# Altium integrated library Analog Devices Audio and Video Video Amps, Buffers and Filters.IntLib: 89 symbols (part 3 of 5)
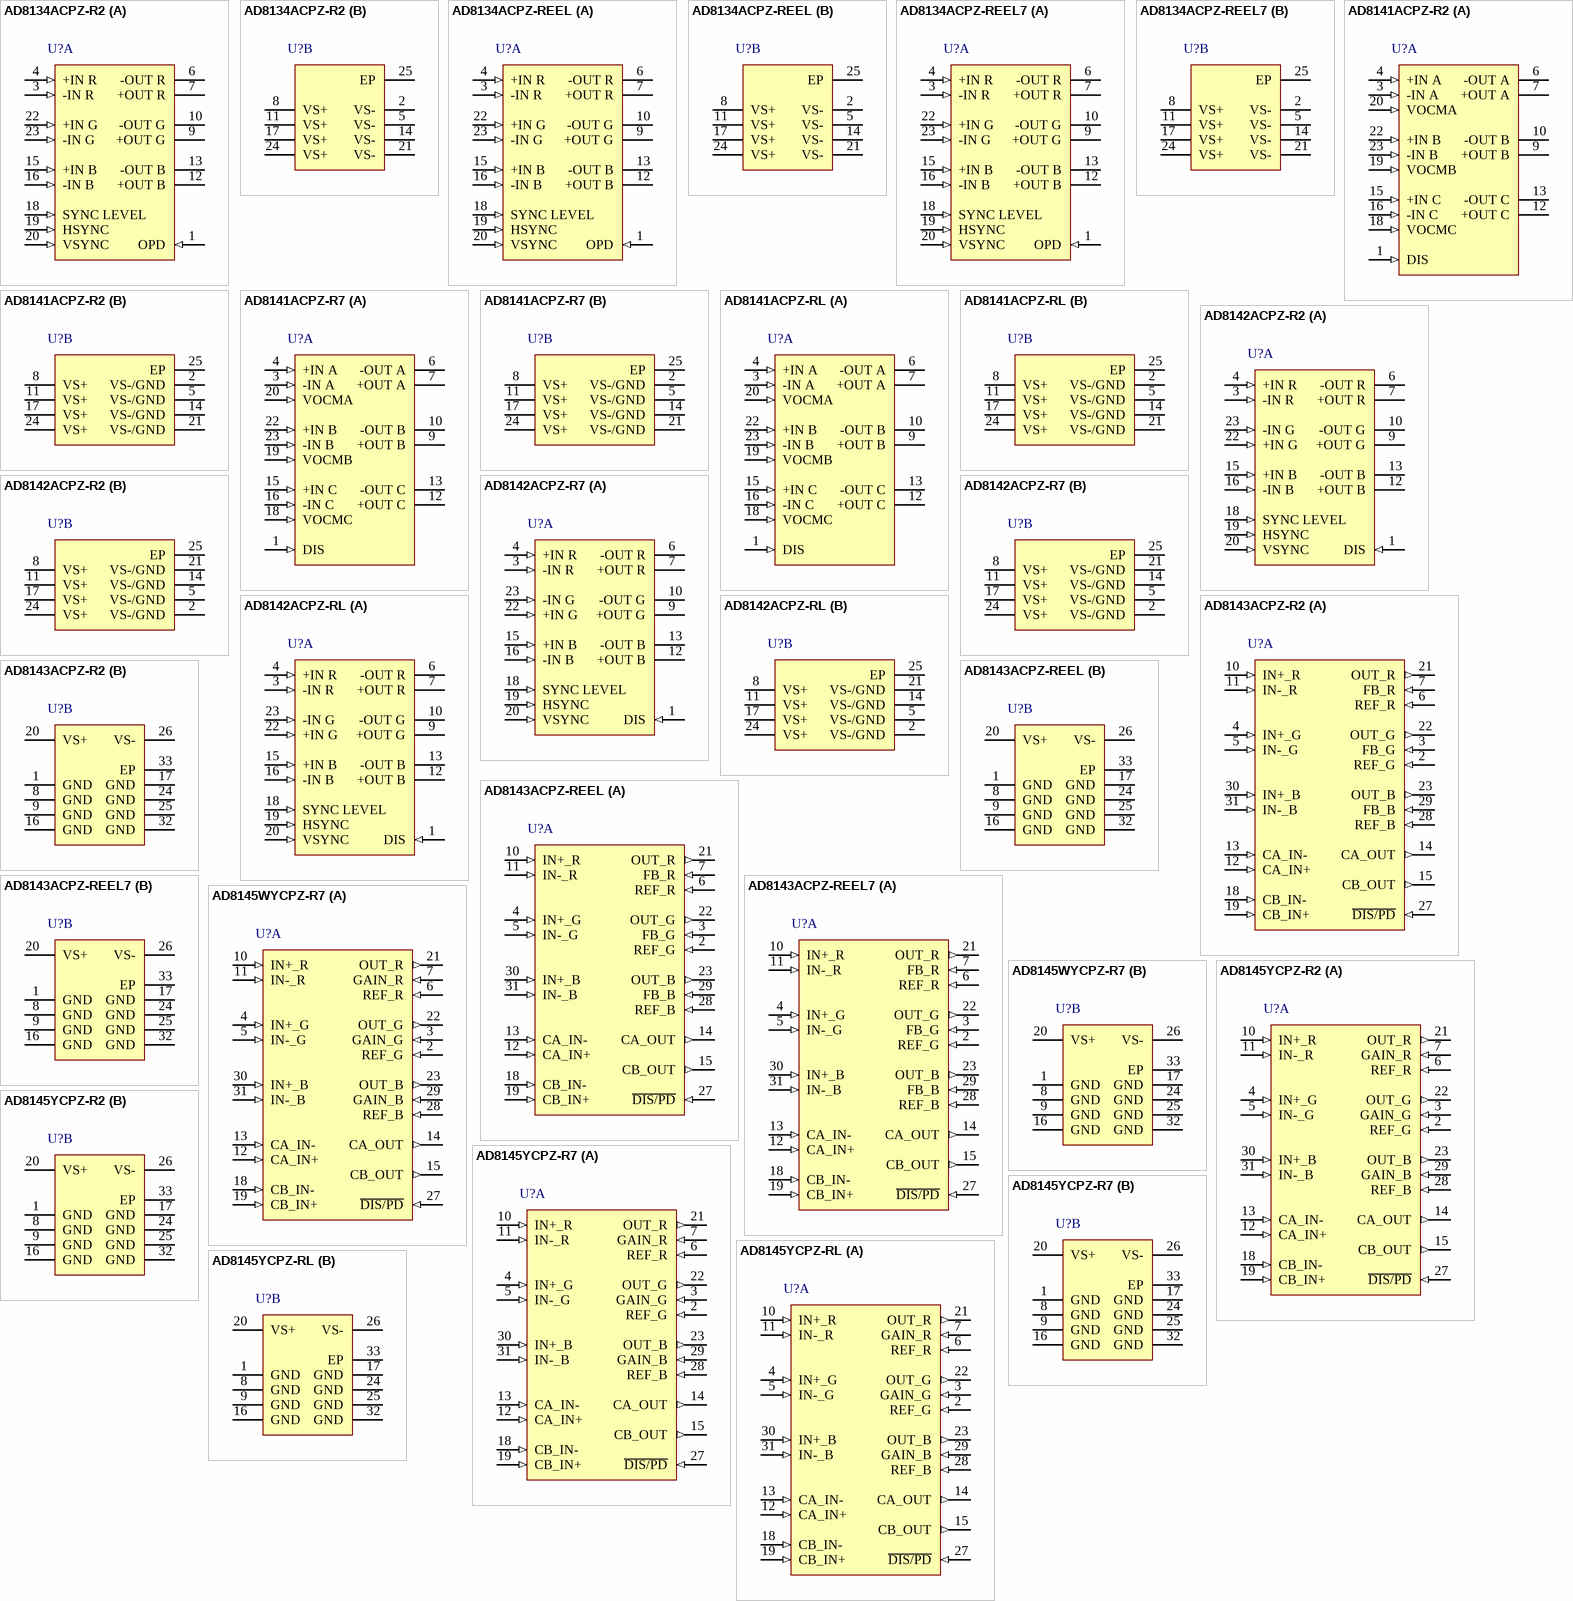
[diagram p6: symbols AD8134ACPZ-R2 to AD8145YCPZ-RL]

## AD8143ACPZ-R2
designator U?
High Speed, Triple Differential Receiver with Comparator, 5 to 12 V Supply, 260 MHz Bandwidth, Industrial, 32-pin QFN (CP-32-2), Reel; Manufacturer: Analog Devices; PartNumber: AD8143ACPZ-R2; -3dB Bandwidth: 160MHz, 130MHz, 125MHz; 0.1 dB Flatness (MHz): 45; Max Pos Supply: 24V, 24V, 24V; Min Pos Supply: 4.5V,4.5V, 4.5V; Minimum Gain (Acl): 1; Slew Rate (V/us): 1000; DatasheetVersion: Rev. 0; PackageVersion: Jan-05; PackageReference: CP-32-2; PackageDescription: 32-Pin Lead Frame Chip Scale Package, Body 5 x 5 mm, Pitch 0.5 mm; Supplier 1: Mouser; Supplier Part Number 1: N/A; Packing: Reel; Mounting Technology: Surface Mount; Code_JEDEC: MO-220-VHHD-2; ComponentLink1Description: Manufacturer URL; ComponentLink1URL: http://www.analog.com/en/index.html; ComponentLink2Description: Datasheet; ComponentLink2URL: http://www.analog.com/static/imported-files/data_sheets/AD8143.pdf; ComponentLink3Description: Package Specification; ComponentLink3URL: http://www.analog.com/static/imported-files/packages/414143737956480539664569CP_32_2.pdf; ComponentLink4Description: URL Link1; ComponentLink4URL: Product URL:http://www.analog.com/en/specialty-amplifiers/video-ampsbuffersfilters/ad8143/products/product.html
footprint ADI-CP-32-2_N (QFN, 32-Leads, Body 5x5mm, Pitch 0.5mm, Thermal Pad 3.1x3.1mm, IPC Medium Density)
footprint ADI-CP-32-2_L (QFN, 32-Leads, Body 5x5mm, Pitch 0.5mm, Thermal Pad 3.1x3.1mm, IPC High Density)
footprint ADI-CP-32-2_M (QFN, 32-Leads, Body 5x5mm, Pitch 0.5mm, Thermal Pad 3.1x3.1mm, IPC Low Density)
part A pins: 2 REF_G (in) "Reference Input, Green Channel", 3 FB_G (in) "Feedback Input, Green Channel", 4 IN+_G (in) "Noninverting Input, Green Channel", 5 IN-_G (in) "Inverting Input, Green Channel", 6 REF_R (in) "Reference Input, Red Channel", 7 FB_R (in) "Feedback Input, Red Channel", 10 IN+_R (in) "Noninverting Input, Red Channel", 11 IN-_R (in) "Inverting Input, Red Channel", 12 CA_IN+ (in) "Positive Input, Comparator A", 13 CA_IN- (in) "Negative Input, Comparator A", 14 CA_OUT (out) "Output, Comparator A", 15 CB_OUT (out) "Output, Comparator B", 18 CB_IN- (in) "Negative Input, Comparator B", 19 CB_IN+ (in) "Positive Input, Comparator B", 21 OUT_R (out) "Output, Red Channel", 22 OUT_G (out) "Output, Green Channel", 23 OUT_B (out) "Output, Blue Channel", 27 ~{DIS/PD} (in) "Disable/Power Down", 28 REF_B (in) "Reference Input, Blue Channel", 29 FB_B (in) "Feedback Input, Blue Channel", 30 IN+_B (in) "Noninverting Input, Blue Channel", 31 IN-_B (in) "Inverting Input, Blue Channel"
part B pins: 1 GND (power) "Signal Ground and Thermal Plane Connection (See the Applications Section)", 8 GND (power) "Signal Ground and Thermal Plane Connection (See the Applications Section)", 9 GND (power) "Signal Ground and Thermal Plane Connection (See the Applications Section)", 16 GND (power) "Signal Ground and Thermal Plane Connection (See the Applications Section)", 17 GND (power) "Signal Ground and Thermal Plane Connection (See the Applications Section)", 20 VS+ (power) "Positive Power Supply", 24 GND (power) "Signal Ground and Thermal Plane Connection (See the Applications Section)", 25 GND (power) "Signal Ground and Thermal Plane Connection (See the Applications Section)", 26 VS- (power) "Negative Power Supply", 32 GND (power) "Signal Ground and Thermal Plane Connection (See the Applications Section)", 33 EP (power) "Signal Ground and Thermal Plane Connection (See the Applications Section)"

## AD8143ACPZ-REEL
designator U?
High Speed, Triple Differential Receiver with Comparator, 5 to 12 V Supply, 260 MHz Bandwidth, Industrial, 32-pin QFN (CP-32-2), Reel; Manufacturer: Analog Devices; PartNumber: AD8143ACPZ-REEL; -3dB Bandwidth: 160MHz, 130MHz, 125MHz; 0.1 dB Flatness (MHz): 45; Max Pos Supply: 24V, 24V, 24V; Min Pos Supply: 4.5V,4.5V, 4.5V; Minimum Gain (Acl): 1; Slew Rate (V/us): 1000; DatasheetVersion: Rev. 0; PackageVersion: Jan-05; PackageReference: CP-32-2; PackageDescription: 32-Pin Lead Frame Chip Scale Package, Body 5 x 5 mm, Pitch 0.5 mm; Supplier 1: Digi-Key; Supplier Part Number 1: AD8143ACPZ-REEL-ND; Supplier 2: Mouser; Supplier Part Number 2: 584-AD8143ACPZ-R; Packing: Reel; Mounting Technology: Surface Mount; Code_JEDEC: MO-220-VHHD-2; ComponentLink1Description: Manufacturer URL; ComponentLink1URL: http://www.analog.com/en/index.html; ComponentLink2Description: Datasheet; ComponentLink2URL: http://www.analog.com/static/imported-files/data_sheets/AD8143.pdf; ComponentLink3Description: Package Specification; ComponentLink3URL: http://www.analog.com/static/imported-files/packages/414143737956480539664569CP_32_2.pdf; ComponentLink4Description: URL Link1; ComponentLink4URL: Product URL:http://www.analog.com/en/specialty-amplifiers/video-ampsbuffersfilters/ad8143/products/product.html
footprint ADI-CP-32-2_N (QFN, 32-Leads, Body 5x5mm, Pitch 0.5mm, Thermal Pad 3.1x3.1mm, IPC Medium Density)
footprint ADI-CP-32-2_L (QFN, 32-Leads, Body 5x5mm, Pitch 0.5mm, Thermal Pad 3.1x3.1mm, IPC High Density)
footprint ADI-CP-32-2_M (QFN, 32-Leads, Body 5x5mm, Pitch 0.5mm, Thermal Pad 3.1x3.1mm, IPC Low Density)
part A pins: 2 REF_G (in) "Reference Input, Green Channel", 3 FB_G (in) "Feedback Input, Green Channel", 4 IN+_G (in) "Noninverting Input, Green Channel", 5 IN-_G (in) "Inverting Input, Green Channel", 6 REF_R (in) "Reference Input, Red Channel", 7 FB_R (in) "Feedback Input, Red Channel", 10 IN+_R (in) "Noninverting Input, Red Channel", 11 IN-_R (in) "Inverting Input, Red Channel", 12 CA_IN+ (in) "Positive Input, Comparator A", 13 CA_IN- (in) "Negative Input, Comparator A", 14 CA_OUT (out) "Output, Comparator A", 15 CB_OUT (out) "Output, Comparator B", 18 CB_IN- (in) "Negative Input, Comparator B", 19 CB_IN+ (in) "Positive Input, Comparator B", 21 OUT_R (out) "Output, Red Channel", 22 OUT_G (out) "Output, Green Channel", 23 OUT_B (out) "Output, Blue Channel", 27 ~{DIS/PD} (in) "Disable/Power Down", 28 REF_B (in) "Reference Input, Blue Channel", 29 FB_B (in) "Feedback Input, Blue Channel", 30 IN+_B (in) "Noninverting Input, Blue Channel", 31 IN-_B (in) "Inverting Input, Blue Channel"
part B pins: 1 GND (power) "Signal Ground and Thermal Plane Connection (See the Applications Section)", 8 GND (power) "Signal Ground and Thermal Plane Connection (See the Applications Section)", 9 GND (power) "Signal Ground and Thermal Plane Connection (See the Applications Section)", 16 GND (power) "Signal Ground and Thermal Plane Connection (See the Applications Section)", 17 GND (power) "Signal Ground and Thermal Plane Connection (See the Applications Section)", 20 VS+ (power) "Positive Power Supply", 24 GND (power) "Signal Ground and Thermal Plane Connection (See the Applications Section)", 25 GND (power) "Signal Ground and Thermal Plane Connection (See the Applications Section)", 26 VS- (power) "Negative Power Supply", 32 GND (power) "Signal Ground and Thermal Plane Connection (See the Applications Section)", 33 EP (power) "Signal Ground and Thermal Plane Connection (See the Applications Section)"

## AD8143ACPZ-REEL7
designator U?
High Speed, Triple Differential Receiver with Comparator, 5 to 12 V Supply, 260 MHz Bandwidth, Industrial, 32-pin QFN (CP-32-2), Reel; Manufacturer: Analog Devices; PartNumber: AD8143ACPZ-REEL7; -3dB Bandwidth: 160MHz, 130MHz, 125MHz; 0.1 dB Flatness (MHz): 45; Max Pos Supply: 24V, 24V, 24V; Min Pos Supply: 4.5V,4.5V, 4.5V; Minimum Gain (Acl): 1; Slew Rate (V/us): 1000; DatasheetVersion: Rev. 0; PackageVersion: Jan-05; PackageReference: CP-32-2; PackageDescription: 32-Pin Lead Frame Chip Scale Package, Body 5 x 5 mm, Pitch 0.5 mm; Supplier 1: Digi-Key; Supplier Part Number 1: AD8143ACPZ-REEL7TR-ND; Supplier 2: Digi-Key; Supplier Part Number 2: AD8143ACPZ-REEL7CT-ND; Supplier 3: Digi-Key; Supplier Part Number 3: AD8143ACPZ-REEL7DKR-ND; Supplier 4: Mouser; Supplier Part Number 4: 584-AD8143ACPZ-R7; Packing: Reel; Mounting Technology: Surface Mount; Code_JEDEC: MO-220-VHHD-2; ComponentLink1Description: Manufacturer URL; ComponentLink1URL: http://www.analog.com/en/index.html; ComponentLink2Description: Datasheet; ComponentLink2URL: http://www.analog.com/static/imported-files/data_sheets/AD8143.pdf; ComponentLink3Description: Package Specification; ComponentLink3URL: http://www.analog.com/static/imported-files/packages/414143737956480539664569CP_32_2.pdf; ComponentLink4Description: URL Link1; ComponentLink4URL: Product URL:http://www.analog.com/en/specialty-amplifiers/video-ampsbuffersfilters/ad8143/products/product.html
footprint ADI-CP-32-2_N (QFN, 32-Leads, Body 5x5mm, Pitch 0.5mm, Thermal Pad 3.1x3.1mm, IPC Medium Density)
footprint ADI-CP-32-2_L (QFN, 32-Leads, Body 5x5mm, Pitch 0.5mm, Thermal Pad 3.1x3.1mm, IPC High Density)
footprint ADI-CP-32-2_M (QFN, 32-Leads, Body 5x5mm, Pitch 0.5mm, Thermal Pad 3.1x3.1mm, IPC Low Density)
part A pins: 2 REF_G (in) "Reference Input, Green Channel", 3 FB_G (in) "Feedback Input, Green Channel", 4 IN+_G (in) "Noninverting Input, Green Channel", 5 IN-_G (in) "Inverting Input, Green Channel", 6 REF_R (in) "Reference Input, Red Channel", 7 FB_R (in) "Feedback Input, Red Channel", 10 IN+_R (in) "Noninverting Input, Red Channel", 11 IN-_R (in) "Inverting Input, Red Channel", 12 CA_IN+ (in) "Positive Input, Comparator A", 13 CA_IN- (in) "Negative Input, Comparator A", 14 CA_OUT (out) "Output, Comparator A", 15 CB_OUT (out) "Output, Comparator B", 18 CB_IN- (in) "Negative Input, Comparator B", 19 CB_IN+ (in) "Positive Input, Comparator B", 21 OUT_R (out) "Output, Red Channel", 22 OUT_G (out) "Output, Green Channel", 23 OUT_B (out) "Output, Blue Channel", 27 ~{DIS/PD} (in) "Disable/Power Down", 28 REF_B (in) "Reference Input, Blue Channel", 29 FB_B (in) "Feedback Input, Blue Channel", 30 IN+_B (in) "Noninverting Input, Blue Channel", 31 IN-_B (in) "Inverting Input, Blue Channel"
part B pins: 1 GND (power) "Signal Ground and Thermal Plane Connection (See the Applications Section)", 8 GND (power) "Signal Ground and Thermal Plane Connection (See the Applications Section)", 9 GND (power) "Signal Ground and Thermal Plane Connection (See the Applications Section)", 16 GND (power) "Signal Ground and Thermal Plane Connection (See the Applications Section)", 17 GND (power) "Signal Ground and Thermal Plane Connection (See the Applications Section)", 20 VS+ (power) "Positive Power Supply", 24 GND (power) "Signal Ground and Thermal Plane Connection (See the Applications Section)", 25 GND (power) "Signal Ground and Thermal Plane Connection (See the Applications Section)", 26 VS- (power) "Negative Power Supply", 32 GND (power) "Signal Ground and Thermal Plane Connection (See the Applications Section)", 33 EP (power) "Signal Ground and Thermal Plane Connection (See the Applications Section)"

## AD8145WYCPZ-R7
designator U?
High Speed, Triple Differential Receiver with Comparator, 4.5 to 11 V Supply, 500 MHz Bandwidth, Industrial, 32-pin QFN (CP-32-3), Reel; Manufacturer: Analog Devices; PartNumber: AD8145WYCPZ-R7; -3dB Bandwidth: 500MHz, 425MHz; 0.1 dB Flatness (MHz): 75, 53; Max Pos Supply: 11V, 11V; Min Pos Supply: 4.5V, 4.5V; Minimum Gain (Acl): 1; Slew Rate (V/us): 2100, 2000; DatasheetVersion: Rev. A; PackageVersion: Jan-05; PackageReference: CP-32-3; PackageDescription: 32-Pin Lead Frame Chip Scale Package, Body 5 x 5 mm, Pitch 0.5 mm; Supplier 1: Digi-Key; Supplier Part Number 1: AD8145WYCPZ-R7TR-ND; Supplier 2: Digi-Key; Supplier Part Number 2: AD8145WYCPZ-R7CT-ND; Supplier 3: Digi-Key; Supplier Part Number 3: AD8145WYCPZ-R7DKR-ND; Supplier 4: Newark; Supplier Part Number 4: 91R2588; Supplier 5: Mouser; Supplier Part Number 5: 584-AD8145WYCPZ-R7; Packing: Reel; Mounting Technology: Surface Mount; Code_JEDEC: MO-220-VHHD-2; ComponentLink1Description: Manufacturer URL; ComponentLink1URL: http://www.analog.com/en/index.html; ComponentLink2Description: Datasheet; ComponentLink2URL: http://www.analog.com/static/imported-files/data_sheets/AD8145.pdf; ComponentLink3Description: Package Specification; ComponentLink3URL: http://www.analog.com/static/imported-files/packages/32877413525511988CP_32_3.pdf; ComponentLink4Description: URL Link1; ComponentLink4URL: Product URL:http://www.analog.com/en/specialty-amplifiers/video-ampsbuffersfilters/ad8145/products/product.html
footprint ADI-CP-32-3_N (QFN, 32-Leads, Body 5x5mm, Pitch 0.5mm, Thermal Pad 3.3x3.3mm, IPC Medium Density)
footprint ADI-CP-32-3_L (QFN, 32-Leads, Body 5x5mm, Pitch 0.5mm, Thermal Pad 3.3x3.3mm, IPC High Density)
footprint ADI-CP-32-3_M (QFN, 32-Leads, Body 5x5mm, Pitch 0.5mm, Thermal Pad 3.3x3.3mm, IPC Low Density)
part A pins: 2 REF_G (in) "Reference Input, Green Channel.", 3 GAIN_G (in) "Gain Connection, Green Channel.", 4 IN+_G (in) "Noninverting Input, Green Channel.", 5 IN-_G (in) "Inverting Input, Green Channel.", 6 REF_R (in) "Reference Input, Red Channel.", 7 GAIN_R (in) "Gain Connection, Red Channel.", 10 IN+_R (in) "Noninverting Input, Red Channel.", 11 IN-_R (in) "Inverting Input, Red Channel.", 12 CA_IN+ (in) "Positive Input, Comparator A.", 13 CA_IN- (in) "Negative Input, Comparator A.", 14 CA_OUT (out) "Output, Comparator A.", 15 CB_OUT (out) "Output, Comparator B.", 18 CB_IN- (in) "Negative Input, Comparator B.", 19 CB_IN+ (in) "Positive Input, Comparator B.", 21 OUT_R (out) "Output, Red Channel.", 22 OUT_G (out) "Output, Green Channel.", 23 OUT_B (out) "Output, Blue Channel.", 27 ~{DIS/PD} (in) "Disable/Power Down.", 28 REF_B (in) "Reference Input, Blue Channel.", 29 GAIN_B (in) "Gain Connection, Blue Channel.", 30 IN+_B (in) "Noninverting Input, Blue Channel.", 31 IN-_B (in) "Inverting Input, Blue Channel."
part B pins: 1 GND (power) "Signal Ground and Thermal Plane Connection. (See the Absolute Maximum Ratings section.)", 8 GND (power) "Signal Ground and Thermal Plane Connection. (See the Absolute Maximum Ratings section.)", 9 GND (power) "Signal Ground and Thermal Plane Connection. (See the Absolute Maximum Ratings section.)", 16 GND (power) "Signal Ground and Thermal Plane Connection. (See the Absolute Maximum Ratings section.)", 17 GND (power) "Signal Ground and Thermal Plane Connection. (See the Absolute Maximum Ratings section.)", 20 VS+ (power) "Positive Power Supply.", 24 GND (power) "Signal Ground and Thermal Plane Connection. (See the Absolute Maximum Ratings section.)", 25 GND (power) "Signal Ground and Thermal Plane Connection. (See the Absolute Maximum Ratings section.)", 26 VS- (power) "Negative Power Supply.", 32 GND (power) "Signal Ground and Thermal Plane Connection. (See the Absolute Maximum Ratings section.)", 33 EP (power) "Signal Ground and Thermal Plane Connection."

## AD8145YCPZ-R2
designator U?
High Speed, Triple Differential Receiver with Comparator, 4.5 to 11 V Supply, 500 MHz Bandwidth, Industrial, 32-pin QFN (CP-32-3), Reel; Manufacturer: Analog Devices; PartNumber: AD8145YCPZ-R2; -3dB Bandwidth: 500MHz, 425MHz; 0.1 dB Flatness (MHz): 75, 53; Max Pos Supply: 11V, 11V; Min Pos Supply: 4.5V, 4.5V; Minimum Gain (Acl): 1; Slew Rate (V/us): 2100, 2000; DatasheetVersion: Rev. A; PackageVersion: Jan-05; PackageReference: CP-32-3; PackageDescription: 32-Pin Lead Frame Chip Scale Package, Body 5 x 5 mm, Pitch 0.5 mm; Supplier 1: Farnell; Supplier Part Number 1: 1316451; Supplier 2: Mouser; Supplier Part Number 2: N/A; Packing: Reel; Mounting Technology: Surface Mount; Code_JEDEC: MO-220-VHHD-2; ComponentLink1Description: Manufacturer URL; ComponentLink1URL: http://www.analog.com/en/index.html; ComponentLink2Description: Datasheet; ComponentLink2URL: http://www.analog.com/static/imported-files/data_sheets/AD8145.pdf; ComponentLink3Description: Package Specification; ComponentLink3URL: http://www.analog.com/static/imported-files/packages/32877413525511988CP_32_3.pdf; ComponentLink4Description: URL Link1; ComponentLink4URL: Product URL:http://www.analog.com/en/specialty-amplifiers/video-ampsbuffersfilters/ad8145/products/product.html
footprint ADI-CP-32-3_N (QFN, 32-Leads, Body 5x5mm, Pitch 0.5mm, Thermal Pad 3.3x3.3mm, IPC Medium Density)
footprint ADI-CP-32-3_L (QFN, 32-Leads, Body 5x5mm, Pitch 0.5mm, Thermal Pad 3.3x3.3mm, IPC High Density)
footprint ADI-CP-32-3_M (QFN, 32-Leads, Body 5x5mm, Pitch 0.5mm, Thermal Pad 3.3x3.3mm, IPC Low Density)
part A pins: 2 REF_G (in) "Reference Input, Green Channel.", 3 GAIN_G (in) "Gain Connection, Green Channel.", 4 IN+_G (in) "Noninverting Input, Green Channel.", 5 IN-_G (in) "Inverting Input, Green Channel.", 6 REF_R (in) "Reference Input, Red Channel.", 7 GAIN_R (in) "Gain Connection, Red Channel.", 10 IN+_R (in) "Noninverting Input, Red Channel.", 11 IN-_R (in) "Inverting Input, Red Channel.", 12 CA_IN+ (in) "Positive Input, Comparator A.", 13 CA_IN- (in) "Negative Input, Comparator A.", 14 CA_OUT (out) "Output, Comparator A.", 15 CB_OUT (out) "Output, Comparator B.", 18 CB_IN- (in) "Negative Input, Comparator B.", 19 CB_IN+ (in) "Positive Input, Comparator B.", 21 OUT_R (out) "Output, Red Channel.", 22 OUT_G (out) "Output, Green Channel.", 23 OUT_B (out) "Output, Blue Channel.", 27 ~{DIS/PD} (in) "Disable/Power Down.", 28 REF_B (in) "Reference Input, Blue Channel.", 29 GAIN_B (in) "Gain Connection, Blue Channel.", 30 IN+_B (in) "Noninverting Input, Blue Channel.", 31 IN-_B (in) "Inverting Input, Blue Channel."
part B pins: 1 GND (power) "Signal Ground and Thermal Plane Connection. (See the Absolute Maximum Ratings section.)", 8 GND (power) "Signal Ground and Thermal Plane Connection. (See the Absolute Maximum Ratings section.)", 9 GND (power) "Signal Ground and Thermal Plane Connection. (See the Absolute Maximum Ratings section.)", 16 GND (power) "Signal Ground and Thermal Plane Connection. (See the Absolute Maximum Ratings section.)", 17 GND (power) "Signal Ground and Thermal Plane Connection. (See the Absolute Maximum Ratings section.)", 20 VS+ (power) "Positive Power Supply.", 24 GND (power) "Signal Ground and Thermal Plane Connection. (See the Absolute Maximum Ratings section.)", 25 GND (power) "Signal Ground and Thermal Plane Connection. (See the Absolute Maximum Ratings section.)", 26 VS- (power) "Negative Power Supply.", 32 GND (power) "Signal Ground and Thermal Plane Connection. (See the Absolute Maximum Ratings section.)", 33 EP (power) "Signal Ground and Thermal Plane Connection."

## AD8145YCPZ-R7
designator U?
High Speed, Triple Differential Receiver with Comparator, 4.5 to 11 V Supply, 500 MHz Bandwidth, Industrial, 32-pin QFN (CP-32-3), Reel; Manufacturer: Analog Devices; PartNumber: AD8145YCPZ-R7; -3dB Bandwidth: 500MHz, 425MHz; 0.1 dB Flatness (MHz): 75, 53; Max Pos Supply: 11V, 11V; Min Pos Supply: 4.5V, 4.5V; Minimum Gain (Acl): 1; Slew Rate (V/us): 2100, 2000; DatasheetVersion: Rev. A; PackageVersion: Jan-05; PackageReference: CP-32-3; PackageDescription: 32-Pin Lead Frame Chip Scale Package, Body 5 x 5 mm, Pitch 0.5 mm; Supplier 1: Digi-Key; Supplier Part Number 1: AD8145YCPZ-R7TR-ND; Supplier 2: Digi-Key; Supplier Part Number 2: AD8145YCPZ-R7CT-ND; Supplier 3: Digi-Key; Supplier Part Number 3: AD8145YCPZ-R7DKR-ND; Supplier 4: Newark; Supplier Part Number 4: 28M4094; Supplier 5: Mouser; Supplier Part Number 5: 584-AD8145YCPZ-R7; Packing: Reel; Mounting Technology: Surface Mount; Code_JEDEC: MO-220-VHHD-2; ComponentLink1Description: Manufacturer URL; ComponentLink1URL: http://www.analog.com/en/index.html; ComponentLink2Description: Datasheet; ComponentLink2URL: http://www.analog.com/static/imported-files/data_sheets/AD8145.pdf; ComponentLink3Description: Package Specification; ComponentLink3URL: http://www.analog.com/static/imported-files/packages/32877413525511988CP_32_3.pdf; ComponentLink4Description: URL Link1; ComponentLink4URL: Product URL:http://www.analog.com/en/specialty-amplifiers/video-ampsbuffersfilters/ad8145/products/product.html
footprint ADI-CP-32-3_N (QFN, 32-Leads, Body 5x5mm, Pitch 0.5mm, Thermal Pad 3.3x3.3mm, IPC Medium Density)
footprint ADI-CP-32-3_L (QFN, 32-Leads, Body 5x5mm, Pitch 0.5mm, Thermal Pad 3.3x3.3mm, IPC High Density)
footprint ADI-CP-32-3_M (QFN, 32-Leads, Body 5x5mm, Pitch 0.5mm, Thermal Pad 3.3x3.3mm, IPC Low Density)
part A pins: 2 REF_G (in) "Reference Input, Green Channel.", 3 GAIN_G (in) "Gain Connection, Green Channel.", 4 IN+_G (in) "Noninverting Input, Green Channel.", 5 IN-_G (in) "Inverting Input, Green Channel.", 6 REF_R (in) "Reference Input, Red Channel.", 7 GAIN_R (in) "Gain Connection, Red Channel.", 10 IN+_R (in) "Noninverting Input, Red Channel.", 11 IN-_R (in) "Inverting Input, Red Channel.", 12 CA_IN+ (in) "Positive Input, Comparator A.", 13 CA_IN- (in) "Negative Input, Comparator A.", 14 CA_OUT (out) "Output, Comparator A.", 15 CB_OUT (out) "Output, Comparator B.", 18 CB_IN- (in) "Negative Input, Comparator B.", 19 CB_IN+ (in) "Positive Input, Comparator B.", 21 OUT_R (out) "Output, Red Channel.", 22 OUT_G (out) "Output, Green Channel.", 23 OUT_B (out) "Output, Blue Channel.", 27 ~{DIS/PD} (in) "Disable/Power Down.", 28 REF_B (in) "Reference Input, Blue Channel.", 29 GAIN_B (in) "Gain Connection, Blue Channel.", 30 IN+_B (in) "Noninverting Input, Blue Channel.", 31 IN-_B (in) "Inverting Input, Blue Channel."
part B pins: 1 GND (power) "Signal Ground and Thermal Plane Connection. (See the Absolute Maximum Ratings section.)", 8 GND (power) "Signal Ground and Thermal Plane Connection. (See the Absolute Maximum Ratings section.)", 9 GND (power) "Signal Ground and Thermal Plane Connection. (See the Absolute Maximum Ratings section.)", 16 GND (power) "Signal Ground and Thermal Plane Connection. (See the Absolute Maximum Ratings section.)", 17 GND (power) "Signal Ground and Thermal Plane Connection. (See the Absolute Maximum Ratings section.)", 20 VS+ (power) "Positive Power Supply.", 24 GND (power) "Signal Ground and Thermal Plane Connection. (See the Absolute Maximum Ratings section.)", 25 GND (power) "Signal Ground and Thermal Plane Connection. (See the Absolute Maximum Ratings section.)", 26 VS- (power) "Negative Power Supply.", 32 GND (power) "Signal Ground and Thermal Plane Connection. (See the Absolute Maximum Ratings section.)", 33 EP (power) "Signal Ground and Thermal Plane Connection."

## AD8145YCPZ-RL
designator U?
High Speed, Triple Differential Receiver with Comparator, 4.5 to 11 V Supply, 500 MHz Bandwidth, Industrial, 32-pin QFN (CP-32-3), Reel; Manufacturer: Analog Devices; PartNumber: AD8145YCPZ-RL; -3dB Bandwidth: 500MHz, 425MHz; 0.1 dB Flatness (MHz): 75, 53; Max Pos Supply: 11V, 11V; Min Pos Supply: 4.5V, 4.5V; Minimum Gain (Acl): 1; Slew Rate (V/us): 2100, 2000; DatasheetVersion: Rev. A; PackageVersion: Jan-05; PackageReference: CP-32-3; PackageDescription: 32-Pin Lead Frame Chip Scale Package, Body 5 x 5 mm, Pitch 0.5 mm; Supplier 1: Digi-Key; Supplier Part Number 1: AD8145YCPZ-RL-ND; Supplier 2: Mouser; Supplier Part Number 2: 584-AD8145YCPZ-R; Packing: Reel; Mounting Technology: Surface Mount; Code_JEDEC: MO-220-VHHD-2; ComponentLink1Description: Manufacturer URL; ComponentLink1URL: http://www.analog.com/en/index.html; ComponentLink2Description: Datasheet; ComponentLink2URL: http://www.analog.com/static/imported-files/data_sheets/AD8145.pdf; ComponentLink3Description: Package Specification; ComponentLink3URL: http://www.analog.com/static/imported-files/packages/32877413525511988CP_32_3.pdf; ComponentLink4Description: URL Link1; ComponentLink4URL: Product URL:http://www.analog.com/en/specialty-amplifiers/video-ampsbuffersfilters/ad8145/products/product.html
footprint ADI-CP-32-3_N (QFN, 32-Leads, Body 5x5mm, Pitch 0.5mm, Thermal Pad 3.3x3.3mm, IPC Medium Density)
footprint ADI-CP-32-3_L (QFN, 32-Leads, Body 5x5mm, Pitch 0.5mm, Thermal Pad 3.3x3.3mm, IPC High Density)
footprint ADI-CP-32-3_M (QFN, 32-Leads, Body 5x5mm, Pitch 0.5mm, Thermal Pad 3.3x3.3mm, IPC Low Density)
part A pins: 2 REF_G (in) "Reference Input, Green Channel.", 3 GAIN_G (in) "Gain Connection, Green Channel.", 4 IN+_G (in) "Noninverting Input, Green Channel.", 5 IN-_G (in) "Inverting Input, Green Channel.", 6 REF_R (in) "Reference Input, Red Channel.", 7 GAIN_R (in) "Gain Connection, Red Channel.", 10 IN+_R (in) "Noninverting Input, Red Channel.", 11 IN-_R (in) "Inverting Input, Red Channel.", 12 CA_IN+ (in) "Positive Input, Comparator A.", 13 CA_IN- (in) "Negative Input, Comparator A.", 14 CA_OUT (out) "Output, Comparator A.", 15 CB_OUT (out) "Output, Comparator B.", 18 CB_IN- (in) "Negative Input, Comparator B.", 19 CB_IN+ (in) "Positive Input, Comparator B.", 21 OUT_R (out) "Output, Red Channel.", 22 OUT_G (out) "Output, Green Channel.", 23 OUT_B (out) "Output, Blue Channel.", 27 ~{DIS/PD} (in) "Disable/Power Down.", 28 REF_B (in) "Reference Input, Blue Channel.", 29 GAIN_B (in) "Gain Connection, Blue Channel.", 30 IN+_B (in) "Noninverting Input, Blue Channel.", 31 IN-_B (in) "Inverting Input, Blue Channel."
part B pins: 1 GND (power) "Signal Ground and Thermal Plane Connection. (See the Absolute Maximum Ratings section.)", 8 GND (power) "Signal Ground and Thermal Plane Connection. (See the Absolute Maximum Ratings section.)", 9 GND (power) "Signal Ground and Thermal Plane Connection. (See the Absolute Maximum Ratings section.)", 16 GND (power) "Signal Ground and Thermal Plane Connection. (See the Absolute Maximum Ratings section.)", 17 GND (power) "Signal Ground and Thermal Plane Connection. (See the Absolute Maximum Ratings section.)", 20 VS+ (power) "Positive Power Supply.", 24 GND (power) "Signal Ground and Thermal Plane Connection. (See the Absolute Maximum Ratings section.)", 25 GND (power) "Signal Ground and Thermal Plane Connection. (See the Absolute Maximum Ratings section.)", 26 VS- (power) "Negative Power Supply.", 32 GND (power) "Signal Ground and Thermal Plane Connection. (See the Absolute Maximum Ratings section.)", 33 EP (power) "Signal Ground and Thermal Plane Connection."

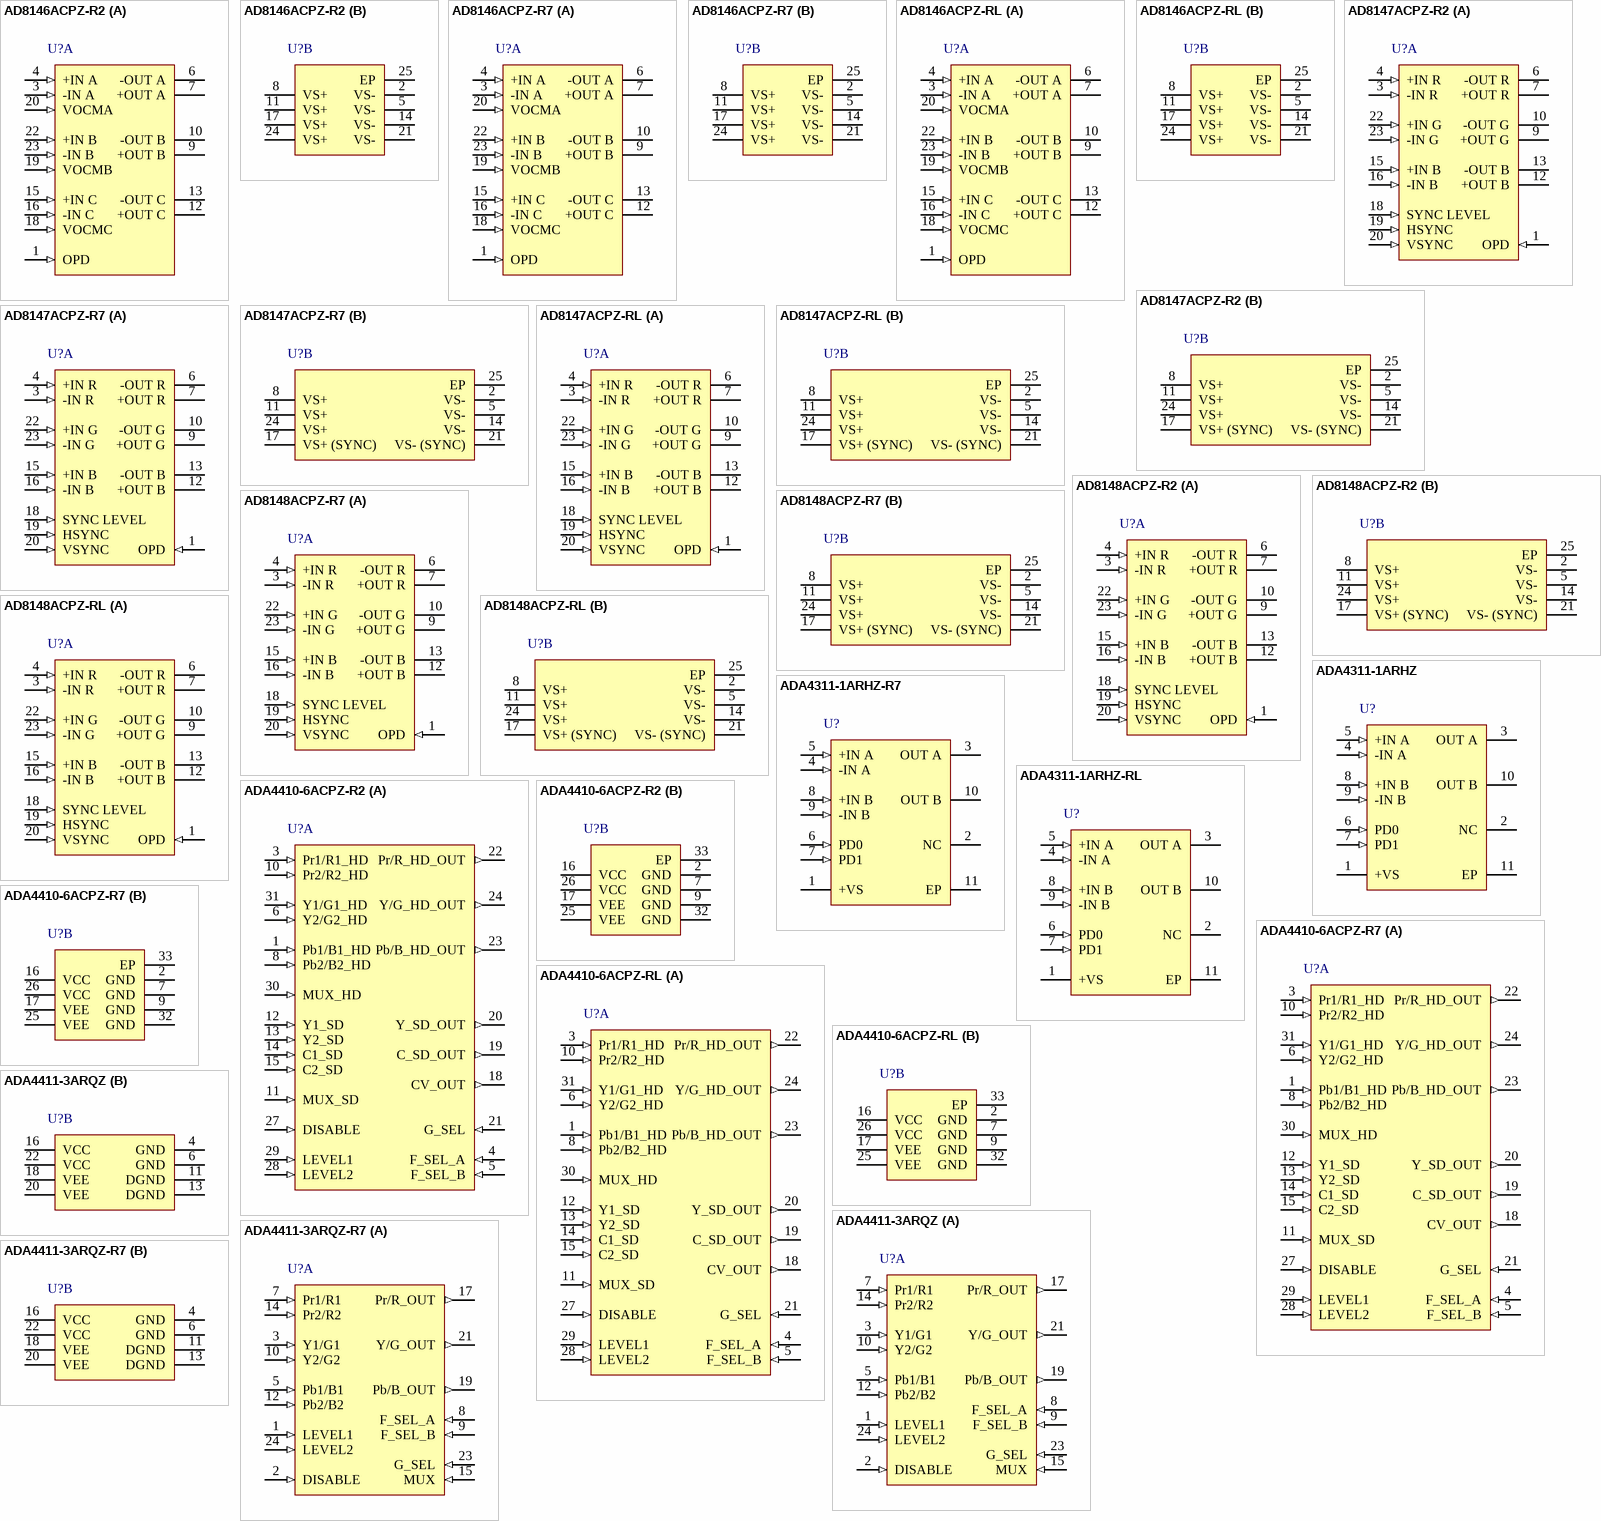
[diagram p2: symbols AD8146ACPZ-R2 to ADA4411-3ARQZ-R7]

## AD8146ACPZ-R2
designator U?
Triple Differential Driver for Wideband Video, 4.5 to 5.5 V Supply, 700 MHz Bandwidth, Industrial, 24-pin QFN (CP-24-1), Reel; Manufacturer: Analog Devices; PartNumber: AD8146ACPZ-R2; -3dB Bandwidth: 700MHz, 620MHz; 0.1 dB Flatness (MHz): 200,165; Max Pos Supply: 5.5V; Min Pos Supply: 4.5V; Minimum Gain (Acl): 2; Slew Rate (V/us): 3000; DatasheetVersion: Rev. A; PackageVersion: May-04; PackageReference: CP-24-1; PackageDescription: 24-Pin Lead Frame Chip Scale Package, Body 4 x 4 mm, Pitch 0.5 mm; Supplier 1: Digi-Key; Supplier Part Number 1: AD8146ACPZ-R2CT-ND; Supplier 2: Digi-Key; Supplier Part Number 2: AD8146ACPZ-R2DKR-ND; Supplier 3: Newark; Supplier Part Number 3: 46M5265; Supplier 4: Mouser; Supplier Part Number 4: N/A; Packing: Reel; Mounting Technology: Surface Mount; Code_JEDEC: MO-220-VGGD-2; ComponentLink1Description: Manufacturer URL; ComponentLink1URL: http://www.analog.com/en/index.html; ComponentLink2Description: Datasheet; ComponentLink2URL: http://www.analog.com/static/imported-files/data_sheets/AD8146_8147_8148.pdf; ComponentLink3Description: Package Specification; ComponentLink3URL: http://www.analog.com/static/imported-files/packages/CP_24_1.pdf; ComponentLink4Description: URL Link1; ComponentLink4URL: Product URL:http://www.analog.com/en/specialty-amplifiers/video-ampsbuffersfilters/ad8146/products/product.html
footprint ADI-CP-24-1_N (QFN, 24-Leads, Body 4x4mm, Pitch 0.5mm, Thermal Pad 2.1x2.1mm, IPC Medium Density)
footprint ADI-CP-24-1_L (QFN, 24-Leads, Body 4x4mm, Pitch 0.5mm, Thermal Pad 2.1x2.1mm, IPC High Density)
footprint ADI-CP-24-1_M (QFN, 24-Leads, Body 4x4mm, Pitch 0.5mm, Thermal Pad 2.1x2.1mm, IPC Low Density)
part A pins: 1 OPD (in) "Output Pull-Down.", 3 -IN A (in) "Inverting Input, Amplifier A.", 4 +IN A (in) "Noninverting Input, Amplifier A.", 6 -OUT A (hiz) "Negative Output, Amplifier A.", 7 +OUT A (hiz) "Positive Output, Amplifier A.", 9 +OUT B (hiz) "Positive Output, Amplifier B.", 10 -OUT B (hiz) "Negative Output, Amplifier B.", 12 +OUT C (hiz) "Positive Output, Amplifier C.", 13 -OUT C (hiz) "Negative Output, Amplifier C.", 15 +IN C (in) "Noninverting Input, Amplifier C.", 16 -IN C (in) "Inverting Input, Amplifier C.", 18 VOCMC (in) "The voltage applied to this pin controls output common-mode voltage, Amplifier C.", 19 VOCMB (in) "The voltage applied to this pin controls output common-mode voltage, Amplifier B.", 20 VOCMA (in) "The voltage applied to this pin controls output common-mode voltage, Amplifier A.", 22 +IN B (in) "Noninverting Input, Amplifier B.", 23 -IN B (in) "Inverting Input, Amplifier B."
part B pins: 2 VS- (power) "Negative Power Supply Voltage.", 5 VS- (power) "Negative Power Supply Voltage.", 8 VS+ (power) "Positive Power Supply Voltage.", 11 VS+ (power) "Positive Power Supply Voltage.", 14 VS- (power) "Negative Power Supply Voltage.", 17 VS+ (power) "Positive Power Supply Voltage.", 21 VS- (power) "Negative Power Supply Voltage.", 24 VS+ (power) "Positive Power Supply Voltage.", 25 EP (power) "Signal Ground Reference."

## AD8146ACPZ-R7
designator U?
Triple Differential Driver for Wideband Video, 4.5 to 5.5 V Supply, 700 MHz Bandwidth, Industrial, 24-pin QFN (CP-24-1), Reel; Manufacturer: Analog Devices; PartNumber: AD8146ACPZ-R7; -3dB Bandwidth: 700MHz, 620MHz; 0.1 dB Flatness (MHz): 200,165; Max Pos Supply: 5.5V; Min Pos Supply: 4.5V; Minimum Gain (Acl): 2; Slew Rate (V/us): 3000; DatasheetVersion: Rev. A; PackageVersion: May-04; PackageReference: CP-24-1; PackageDescription: 24-Pin Lead Frame Chip Scale Package, Body 4 x 4 mm, Pitch 0.5 mm; Supplier 1: Digi-Key; Supplier Part Number 1: AD8146ACPZ-R7-ND; Supplier 2: Mouser; Supplier Part Number 2: 584-AD8146ACPZ-R7; Packing: Reel; Mounting Technology: Surface Mount; Code_JEDEC: MO-220-VGGD-2; ComponentLink1Description: Manufacturer URL; ComponentLink1URL: http://www.analog.com/en/index.html; ComponentLink2Description: Datasheet; ComponentLink2URL: http://www.analog.com/static/imported-files/data_sheets/AD8146_8147_8148.pdf; ComponentLink3Description: Package Specification; ComponentLink3URL: http://www.analog.com/static/imported-files/packages/CP_24_1.pdf; ComponentLink4Description: URL Link1; ComponentLink4URL: Product URL:http://www.analog.com/en/specialty-amplifiers/video-ampsbuffersfilters/ad8146/products/product.html
footprint ADI-CP-24-1_N (QFN, 24-Leads, Body 4x4mm, Pitch 0.5mm, Thermal Pad 2.1x2.1mm, IPC Medium Density)
footprint ADI-CP-24-1_L (QFN, 24-Leads, Body 4x4mm, Pitch 0.5mm, Thermal Pad 2.1x2.1mm, IPC High Density)
footprint ADI-CP-24-1_M (QFN, 24-Leads, Body 4x4mm, Pitch 0.5mm, Thermal Pad 2.1x2.1mm, IPC Low Density)
part A pins: 1 OPD (in) "Output Pull-Down.", 3 -IN A (in) "Inverting Input, Amplifier A.", 4 +IN A (in) "Noninverting Input, Amplifier A.", 6 -OUT A (hiz) "Negative Output, Amplifier A.", 7 +OUT A (hiz) "Positive Output, Amplifier A.", 9 +OUT B (hiz) "Positive Output, Amplifier B.", 10 -OUT B (hiz) "Negative Output, Amplifier B.", 12 +OUT C (hiz) "Positive Output, Amplifier C.", 13 -OUT C (hiz) "Negative Output, Amplifier C.", 15 +IN C (in) "Noninverting Input, Amplifier C.", 16 -IN C (in) "Inverting Input, Amplifier C.", 18 VOCMC (in) "The voltage applied to this pin controls output common-mode voltage, Amplifier C.", 19 VOCMB (in) "The voltage applied to this pin controls output common-mode voltage, Amplifier B.", 20 VOCMA (in) "The voltage applied to this pin controls output common-mode voltage, Amplifier A.", 22 +IN B (in) "Noninverting Input, Amplifier B.", 23 -IN B (in) "Inverting Input, Amplifier B."
part B pins: 2 VS- (power) "Negative Power Supply Voltage.", 5 VS- (power) "Negative Power Supply Voltage.", 8 VS+ (power) "Positive Power Supply Voltage.", 11 VS+ (power) "Positive Power Supply Voltage.", 14 VS- (power) "Negative Power Supply Voltage.", 17 VS+ (power) "Positive Power Supply Voltage.", 21 VS- (power) "Negative Power Supply Voltage.", 24 VS+ (power) "Positive Power Supply Voltage.", 25 EP (power) "Signal Ground Reference."

## AD8146ACPZ-RL
designator U?
Triple Differential Driver for Wideband Video, 4.5 to 5.5 V Supply, 700 MHz Bandwidth, Industrial, 24-pin QFN (CP-24-1), Reel; Manufacturer: Analog Devices; PartNumber: AD8146ACPZ-RL; -3dB Bandwidth: 700MHz, 620MHz; 0.1 dB Flatness (MHz): 200,165; Max Pos Supply: 5.5V; Min Pos Supply: 4.5V; Minimum Gain (Acl): 2; Slew Rate (V/us): 3000; DatasheetVersion: Rev. A; PackageVersion: May-04; PackageReference: CP-24-1; PackageDescription: 24-Pin Lead Frame Chip Scale Package, Body 4 x 4 mm, Pitch 0.5 mm; Supplier 1: Digi-Key; Supplier Part Number 1: AD8146ACPZ-RL-ND; Supplier 2: Mouser; Supplier Part Number 2: 584-AD8146ACPZ-R; Packing: Reel; Mounting Technology: Surface Mount; Code_JEDEC: MO-220-VGGD-2; ComponentLink1Description: Manufacturer URL; ComponentLink1URL: http://www.analog.com/en/index.html; ComponentLink2Description: Datasheet; ComponentLink2URL: http://www.analog.com/static/imported-files/data_sheets/AD8146_8147_8148.pdf; ComponentLink3Description: Package Specification; ComponentLink3URL: http://www.analog.com/static/imported-files/packages/CP_24_1.pdf; ComponentLink4Description: URL Link1; ComponentLink4URL: Product URL:http://www.analog.com/en/specialty-amplifiers/video-ampsbuffersfilters/ad8146/products/product.html
footprint ADI-CP-24-1_N (QFN, 24-Leads, Body 4x4mm, Pitch 0.5mm, Thermal Pad 2.1x2.1mm, IPC Medium Density)
footprint ADI-CP-24-1_L (QFN, 24-Leads, Body 4x4mm, Pitch 0.5mm, Thermal Pad 2.1x2.1mm, IPC High Density)
footprint ADI-CP-24-1_M (QFN, 24-Leads, Body 4x4mm, Pitch 0.5mm, Thermal Pad 2.1x2.1mm, IPC Low Density)
part A pins: 1 OPD (in) "Output Pull-Down.", 3 -IN A (in) "Inverting Input, Amplifier A.", 4 +IN A (in) "Noninverting Input, Amplifier A.", 6 -OUT A (hiz) "Negative Output, Amplifier A.", 7 +OUT A (hiz) "Positive Output, Amplifier A.", 9 +OUT B (hiz) "Positive Output, Amplifier B.", 10 -OUT B (hiz) "Negative Output, Amplifier B.", 12 +OUT C (hiz) "Positive Output, Amplifier C.", 13 -OUT C (hiz) "Negative Output, Amplifier C.", 15 +IN C (in) "Noninverting Input, Amplifier C.", 16 -IN C (in) "Inverting Input, Amplifier C.", 18 VOCMC (in) "The voltage applied to this pin controls output common-mode voltage, Amplifier C.", 19 VOCMB (in) "The voltage applied to this pin controls output common-mode voltage, Amplifier B.", 20 VOCMA (in) "The voltage applied to this pin controls output common-mode voltage, Amplifier A.", 22 +IN B (in) "Noninverting Input, Amplifier B.", 23 -IN B (in) "Inverting Input, Amplifier B."
part B pins: 2 VS- (power) "Negative Power Supply Voltage.", 5 VS- (power) "Negative Power Supply Voltage.", 8 VS+ (power) "Positive Power Supply Voltage.", 11 VS+ (power) "Positive Power Supply Voltage.", 14 VS- (power) "Negative Power Supply Voltage.", 17 VS+ (power) "Positive Power Supply Voltage.", 21 VS- (power) "Negative Power Supply Voltage.", 24 VS+ (power) "Positive Power Supply Voltage.", 25 EP (power) "Signal Ground Reference."

## AD8147ACPZ-R2
designator U?
Triple Differential Driver for Wideband Video, 4.5 to 5.5 V Supply, 600 MHz Bandwidth, Industrial, 24-pin QFN (CP-24-1), Reel; Manufacturer: Analog Devices; PartNumber: AD8147ACPZ-R2; -3dB Bandwidth: 600MHz, 590MHz; 0.1 dB Flatness (MHz): 200,165; Max Pos Supply: 5.5V; Min Pos Supply: 4.5V; Minimum Gain (Acl): 2; Slew Rate (V/us): 3000; DatasheetVersion: Rev. A; PackageVersion: May-04; PackageReference: CP-24-1; PackageDescription: 24-Pin Lead Frame Chip Scale Package, Body 4 x 4 mm, Pitch 0.5 mm; Supplier 1: Digi-Key; Supplier Part Number 1: AD8147ACPZ-R2CT-ND; Supplier 2: Digi-Key; Supplier Part Number 2: AD8147ACPZ-R2DKR-ND; Supplier 3: Mouser; Supplier Part Number 3: N/A; Packing: Reel; Mounting Technology: Surface Mount; Code_JEDEC: MO-220-VGGD-2; ComponentLink1Description: Manufacturer URL; ComponentLink1URL: http://www.analog.com/en/index.html; ComponentLink2Description: Datasheet; ComponentLink2URL: http://www.analog.com/static/imported-files/data_sheets/AD8146_8147_8148.pdf; ComponentLink3Description: Package Specification; ComponentLink3URL: http://www.analog.com/static/imported-files/packages/CP_24_1.pdf; ComponentLink4Description: URL Link1; ComponentLink4URL: Product URL:http://www.analog.com/en/specialty-amplifiers/video-ampsbuffersfilters/ad8147/products/product.html
footprint ADI-CP-24-1_N (QFN, 24-Leads, Body 4x4mm, Pitch 0.5mm, Thermal Pad 2.1x2.1mm, IPC Medium Density)
footprint ADI-CP-24-1_L (QFN, 24-Leads, Body 4x4mm, Pitch 0.5mm, Thermal Pad 2.1x2.1mm, IPC High Density)
footprint ADI-CP-24-1_M (QFN, 24-Leads, Body 4x4mm, Pitch 0.5mm, Thermal Pad 2.1x2.1mm, IPC Low Density)
part A pins: 1 OPD (in) "Output Pull-Down.", 3 -IN R (in) "Inverting Input, Red Amplifier.", 4 +IN R (in) "Noninverting Input, Red Amplifier.", 6 -OUT R (hiz) "Negative Output, Red Amplifier.", 7 +OUT R (hiz) "Positive Output, Red Amplifier.", 9 +OUT G (hiz) "Positive Output, Green Amplifier.", 10 -OUT G (hiz) "Negative Output, Green Amplifier.", 12 +OUT B (hiz) "Positive Output, Blue Amplifier.", 13 -OUT B (hiz) "Negative Output, Blue Amplifier.", 15 +IN B (in) "Noninverting Input, Blue Amplifier.", 16 -IN B (in) "Inverting Input, Blue Amplifier.", 18 SYNC LEVEL (in) "The voltage applied to this pin controls the amplitude of the sync pulses that are applied to the common-mode voltages.", 19 HSYNC (in) "Horizontal Sync Pulse Input.", 20 VSYNC (in) "Vertical Sync Pulse Input.", 22 +IN G (in) "Noninverting Input, Green Amplifier.", 23 -IN G (in) "Inverting Input, Green Amplifier."
part B pins: 2 VS- (power) "Negative Power Supply Voltage", 5 VS- (power) "Negative Power Supply Voltage", 8 VS+ (power) "Positive Power Supply Voltage.", 11 VS+ (power) "Positive Power Supply Voltage.", 14 VS- (power) "Negative Power Supply Voltage", 17 VS+ (SYNC) (power) "Positive Power Supply Voltage for Sync.", 21 VS- (SYNC) (power) "Negative Power Supply Voltage for Sync.", 24 VS+ (power) "Positive Power Supply Voltage.", 25 EP (power) "Signal Ground Reference."

## AD8147ACPZ-R7
designator U?
Triple Differential Driver for Wideband Video, 4.5 to 5.5 V Supply, 600 MHz Bandwidth, Industrial, 24-pin QFN (CP-24-1), Reel; Manufacturer: Analog Devices; PartNumber: AD8147ACPZ-R7; -3dB Bandwidth: 600MHz, 590MHz; 0.1 dB Flatness (MHz): 200,165; Max Pos Supply: 5.5V; Min Pos Supply: 4.5V; Minimum Gain (Acl): 2; Slew Rate (V/us): 3000; DatasheetVersion: Rev. A; PackageVersion: May-04; PackageReference: CP-24-1; PackageDescription: 24-Pin Lead Frame Chip Scale Package, Body 4 x 4 mm, Pitch 0.5 mm; Supplier 1: Digi-Key; Supplier Part Number 1: AD8147ACPZ-R7-ND; Supplier 2: Mouser; Supplier Part Number 2: 584-AD8147ACPZ-R7; Packing: Reel; Mounting Technology: Surface Mount; Code_JEDEC: MO-220-VGGD-2; ComponentLink1Description: Manufacturer URL; ComponentLink1URL: http://www.analog.com/en/index.html; ComponentLink2Description: Datasheet; ComponentLink2URL: http://www.analog.com/static/imported-files/data_sheets/AD8146_8147_8148.pdf; ComponentLink3Description: Package Specification; ComponentLink3URL: http://www.analog.com/static/imported-files/packages/CP_24_1.pdf; ComponentLink4Description: URL Link1; ComponentLink4URL: Product URL:http://www.analog.com/en/specialty-amplifiers/video-ampsbuffersfilters/ad8147/products/product.html
footprint ADI-CP-24-1_N (QFN, 24-Leads, Body 4x4mm, Pitch 0.5mm, Thermal Pad 2.1x2.1mm, IPC Medium Density)
footprint ADI-CP-24-1_L (QFN, 24-Leads, Body 4x4mm, Pitch 0.5mm, Thermal Pad 2.1x2.1mm, IPC High Density)
footprint ADI-CP-24-1_M (QFN, 24-Leads, Body 4x4mm, Pitch 0.5mm, Thermal Pad 2.1x2.1mm, IPC Low Density)
part A pins: 1 OPD (in) "Output Pull-Down.", 3 -IN R (in) "Inverting Input, Red Amplifier.", 4 +IN R (in) "Noninverting Input, Red Amplifier.", 6 -OUT R (hiz) "Negative Output, Red Amplifier.", 7 +OUT R (hiz) "Positive Output, Red Amplifier.", 9 +OUT G (hiz) "Positive Output, Green Amplifier.", 10 -OUT G (hiz) "Negative Output, Green Amplifier.", 12 +OUT B (hiz) "Positive Output, Blue Amplifier.", 13 -OUT B (hiz) "Negative Output, Blue Amplifier.", 15 +IN B (in) "Noninverting Input, Blue Amplifier.", 16 -IN B (in) "Inverting Input, Blue Amplifier.", 18 SYNC LEVEL (in) "The voltage applied to this pin controls the amplitude of the sync pulses that are applied to the common-mode voltages.", 19 HSYNC (in) "Horizontal Sync Pulse Input.", 20 VSYNC (in) "Vertical Sync Pulse Input.", 22 +IN G (in) "Noninverting Input, Green Amplifier.", 23 -IN G (in) "Inverting Input, Green Amplifier."
part B pins: 2 VS- (power) "Negative Power Supply Voltage", 5 VS- (power) "Negative Power Supply Voltage", 8 VS+ (power) "Positive Power Supply Voltage.", 11 VS+ (power) "Positive Power Supply Voltage.", 14 VS- (power) "Negative Power Supply Voltage", 17 VS+ (SYNC) (power) "Positive Power Supply Voltage for Sync.", 21 VS- (SYNC) (power) "Negative Power Supply Voltage for Sync.", 24 VS+ (power) "Positive Power Supply Voltage.", 25 EP (power) "Signal Ground Reference."

## AD8147ACPZ-RL
designator U?
Triple Differential Driver for Wideband Video, 4.5 to 5.5 V Supply, 600 MHz Bandwidth, Industrial, 24-pin QFN (CP-24-1), Reel; Manufacturer: Analog Devices; PartNumber: AD8147ACPZ-RL; -3dB Bandwidth: 600MHz, 590MHz; 0.1 dB Flatness (MHz): 200,165; Max Pos Supply: 5.5V; Min Pos Supply: 4.5V; Minimum Gain (Acl): 2; Slew Rate (V/us): 3000; DatasheetVersion: Rev. A; PackageVersion: May-04; PackageReference: CP-24-1; PackageDescription: 24-Pin Lead Frame Chip Scale Package, Body 4 x 4 mm, Pitch 0.5 mm; Supplier 1: Digi-Key; Supplier Part Number 1: AD8147ACPZ-RL-ND; Supplier 2: Mouser; Supplier Part Number 2: 584-AD8147ACPZ-R; Packing: Reel; Mounting Technology: Surface Mount; Code_JEDEC: MO-220-VGGD-2; ComponentLink1Description: Manufacturer URL; ComponentLink1URL: http://www.analog.com/en/index.html; ComponentLink2Description: Datasheet; ComponentLink2URL: http://www.analog.com/static/imported-files/data_sheets/AD8146_8147_8148.pdf; ComponentLink3Description: Package Specification; ComponentLink3URL: http://www.analog.com/static/imported-files/packages/CP_24_1.pdf; ComponentLink4Description: URL Link1; ComponentLink4URL: Product URL:http://www.analog.com/en/specialty-amplifiers/video-ampsbuffersfilters/ad8147/products/product.html
footprint ADI-CP-24-1_N (QFN, 24-Leads, Body 4x4mm, Pitch 0.5mm, Thermal Pad 2.1x2.1mm, IPC Medium Density)
footprint ADI-CP-24-1_L (QFN, 24-Leads, Body 4x4mm, Pitch 0.5mm, Thermal Pad 2.1x2.1mm, IPC High Density)
footprint ADI-CP-24-1_M (QFN, 24-Leads, Body 4x4mm, Pitch 0.5mm, Thermal Pad 2.1x2.1mm, IPC Low Density)
part A pins: 1 OPD (in) "Output Pull-Down.", 3 -IN R (in) "Inverting Input, Red Amplifier.", 4 +IN R (in) "Noninverting Input, Red Amplifier.", 6 -OUT R (hiz) "Negative Output, Red Amplifier.", 7 +OUT R (hiz) "Positive Output, Red Amplifier.", 9 +OUT G (hiz) "Positive Output, Green Amplifier.", 10 -OUT G (hiz) "Negative Output, Green Amplifier.", 12 +OUT B (hiz) "Positive Output, Blue Amplifier.", 13 -OUT B (hiz) "Negative Output, Blue Amplifier.", 15 +IN B (in) "Noninverting Input, Blue Amplifier.", 16 -IN B (in) "Inverting Input, Blue Amplifier.", 18 SYNC LEVEL (in) "The voltage applied to this pin controls the amplitude of the sync pulses that are applied to the common-mode voltages.", 19 HSYNC (in) "Horizontal Sync Pulse Input.", 20 VSYNC (in) "Vertical Sync Pulse Input.", 22 +IN G (in) "Noninverting Input, Green Amplifier.", 23 -IN G (in) "Inverting Input, Green Amplifier."
part B pins: 2 VS- (power) "Negative Power Supply Voltage", 5 VS- (power) "Negative Power Supply Voltage", 8 VS+ (power) "Positive Power Supply Voltage.", 11 VS+ (power) "Positive Power Supply Voltage.", 14 VS- (power) "Negative Power Supply Voltage", 17 VS+ (SYNC) (power) "Positive Power Supply Voltage for Sync.", 21 VS- (SYNC) (power) "Negative Power Supply Voltage for Sync.", 24 VS+ (power) "Positive Power Supply Voltage.", 25 EP (power) "Signal Ground Reference."

## AD8148ACPZ-R2
designator U?
Triple Differential Driver for Wideband Video, 4.5 to 5.5 V Supply, 700 MHz Bandwidth, Industrial, 24-pin QFN (CP-24-1), Reel; Manufacturer: Analog Devices; PartNumber: AD8148ACPZ-R2; -3dB Bandwidth: 700MHz, 620MHz; 0.1 dB Flatness (MHz): 235, 200; Max Pos Supply: 5.5V; Min Pos Supply: 4.5V; Minimum Gain (Acl): 4; Slew Rate (V/us): 3000; DatasheetVersion: Rev. A; PackageVersion: May-04; PackageReference: CP-24-1; PackageDescription: 24-Pin Lead Frame Chip Scale Package, Body 4 x 4 mm, Pitch 0.5 mm; Supplier 1: Digi-Key; Supplier Part Number 1: AD8148ACPZ-R2CT-ND; Supplier 2: Digi-Key; Supplier Part Number 2: AD8148ACPZ-R2DKR-ND; Supplier 3: Newark; Supplier Part Number 3: 46M5271; Supplier 4: Mouser; Supplier Part Number 4: N/A; Packing: Reel; Mounting Technology: Surface Mount; Code_JEDEC: MO-220-VGGD-2; ComponentLink1Description: Manufacturer URL; ComponentLink1URL: http://www.analog.com/en/index.html; ComponentLink2Description: Datasheet; ComponentLink2URL: http://www.analog.com/static/imported-files/data_sheets/AD8146_8147_8148.pdf; ComponentLink3Description: Package Specification; ComponentLink3URL: http://www.analog.com/static/imported-files/packages/CP_24_1.pdf; ComponentLink4Description: URL Link1; ComponentLink4URL: Product URL:http://www.analog.com/en/specialty-amplifiers/video-ampsbuffersfilters/ad8148/products/product.html
footprint ADI-CP-24-1_N (QFN, 24-Leads, Body 4x4mm, Pitch 0.5mm, Thermal Pad 2.1x2.1mm, IPC Medium Density)
footprint ADI-CP-24-1_L (QFN, 24-Leads, Body 4x4mm, Pitch 0.5mm, Thermal Pad 2.1x2.1mm, IPC High Density)
footprint ADI-CP-24-1_M (QFN, 24-Leads, Body 4x4mm, Pitch 0.5mm, Thermal Pad 2.1x2.1mm, IPC Low Density)
part A pins: 1 OPD (in) "Output Pull-Down.", 3 -IN R (in) "Inverting Input, Red Amplifier.", 4 +IN R (in) "Noninverting Input, Red Amplifier.", 6 -OUT R (hiz) "Negative Output, Red Amplifier.", 7 +OUT R (hiz) "Positive Output, Red Amplifier.", 9 +OUT G (hiz) "Positive Output, Green Amplifier.", 10 -OUT G (hiz) "Negative Output, Green Amplifier.", 12 +OUT B (hiz) "Positive Output, Blue Amplifier.", 13 -OUT B (hiz) "Negative Output, Blue Amplifier.", 15 +IN B (in) "Noninverting Input, Blue Amplifier.", 16 -IN B (in) "Inverting Input, Blue Amplifier.", 18 SYNC LEVEL (in) "The voltage applied to this pin controls the amplitude of the sync pulses that are applied to the common-mode voltages.", 19 HSYNC (in) "Horizontal Sync Pulse Input.", 20 VSYNC (in) "Vertical Sync Pulse Input.", 22 +IN G (in) "Noninverting Input, Green Amplifier.", 23 -IN G (in) "Inverting Input, Green Amplifier."
part B pins: 2 VS- (power) "Negative Power Supply Voltage", 5 VS- (power) "Negative Power Supply Voltage", 8 VS+ (power) "Positive Power Supply Voltage.", 11 VS+ (power) "Positive Power Supply Voltage.", 14 VS- (power) "Negative Power Supply Voltage", 17 VS+ (SYNC) (power) "Positive Power Supply Voltage for Sync.", 21 VS- (SYNC) (power) "Negative Power Supply Voltage for Sync.", 24 VS+ (power) "Positive Power Supply Voltage.", 25 EP (power) "Signal Ground Reference."

## AD8148ACPZ-R7
designator U?
Triple Differential Driver for Wideband Video, 4.5 to 5.5 V Supply, 700 MHz Bandwidth, Industrial, 24-pin QFN (CP-24-1), Reel; Manufacturer: Analog Devices; PartNumber: AD8148ACPZ-R7; -3dB Bandwidth: 700MHz, 620MHz; 0.1 dB Flatness (MHz): 235, 200; Max Pos Supply: 5.5V; Min Pos Supply: 4.5V; Minimum Gain (Acl): 4; Slew Rate (V/us): 3000; DatasheetVersion: Rev. A; PackageVersion: May-04; PackageReference: CP-24-1; PackageDescription: 24-Pin Lead Frame Chip Scale Package, Body 4 x 4 mm, Pitch 0.5 mm; Supplier 1: Digi-Key; Supplier Part Number 1: AD8148ACPZ-R7-ND; Supplier 2: Newark; Supplier Part Number 2: 46M5272; Supplier 3: Mouser; Supplier Part Number 3: 584-AD8148ACPZ-R7; Packing: Reel; Mounting Technology: Surface Mount; Code_JEDEC: MO-220-VGGD-2; ComponentLink1Description: Manufacturer URL; ComponentLink1URL: http://www.analog.com/en/index.html; ComponentLink2Description: Datasheet; ComponentLink2URL: http://www.analog.com/static/imported-files/data_sheets/AD8146_8147_8148.pdf; ComponentLink3Description: Package Specification; ComponentLink3URL: http://www.analog.com/static/imported-files/packages/CP_24_1.pdf; ComponentLink4Description: URL Link1; ComponentLink4URL: Product URL:http://www.analog.com/en/specialty-amplifiers/video-ampsbuffersfilters/ad8148/products/product.html
footprint ADI-CP-24-1_N (QFN, 24-Leads, Body 4x4mm, Pitch 0.5mm, Thermal Pad 2.1x2.1mm, IPC Medium Density)
footprint ADI-CP-24-1_L (QFN, 24-Leads, Body 4x4mm, Pitch 0.5mm, Thermal Pad 2.1x2.1mm, IPC High Density)
footprint ADI-CP-24-1_M (QFN, 24-Leads, Body 4x4mm, Pitch 0.5mm, Thermal Pad 2.1x2.1mm, IPC Low Density)
part A pins: 1 OPD (in) "Output Pull-Down.", 3 -IN R (in) "Inverting Input, Red Amplifier.", 4 +IN R (in) "Noninverting Input, Red Amplifier.", 6 -OUT R (hiz) "Negative Output, Red Amplifier.", 7 +OUT R (hiz) "Positive Output, Red Amplifier.", 9 +OUT G (hiz) "Positive Output, Green Amplifier.", 10 -OUT G (hiz) "Negative Output, Green Amplifier.", 12 +OUT B (hiz) "Positive Output, Blue Amplifier.", 13 -OUT B (hiz) "Negative Output, Blue Amplifier.", 15 +IN B (in) "Noninverting Input, Blue Amplifier.", 16 -IN B (in) "Inverting Input, Blue Amplifier.", 18 SYNC LEVEL (in) "The voltage applied to this pin controls the amplitude of the sync pulses that are applied to the common-mode voltages.", 19 HSYNC (in) "Horizontal Sync Pulse Input.", 20 VSYNC (in) "Vertical Sync Pulse Input.", 22 +IN G (in) "Noninverting Input, Green Amplifier.", 23 -IN G (in) "Inverting Input, Green Amplifier."
part B pins: 2 VS- (power) "Negative Power Supply Voltage", 5 VS- (power) "Negative Power Supply Voltage", 8 VS+ (power) "Positive Power Supply Voltage.", 11 VS+ (power) "Positive Power Supply Voltage.", 14 VS- (power) "Negative Power Supply Voltage", 17 VS+ (SYNC) (power) "Positive Power Supply Voltage for Sync.", 21 VS- (SYNC) (power) "Negative Power Supply Voltage for Sync.", 24 VS+ (power) "Positive Power Supply Voltage.", 25 EP (power) "Signal Ground Reference."